# Altium integrated library PCB_Project.IntLib: 24 symbols
Pins are listed as number, name and electrical type; pins without a type are passive.

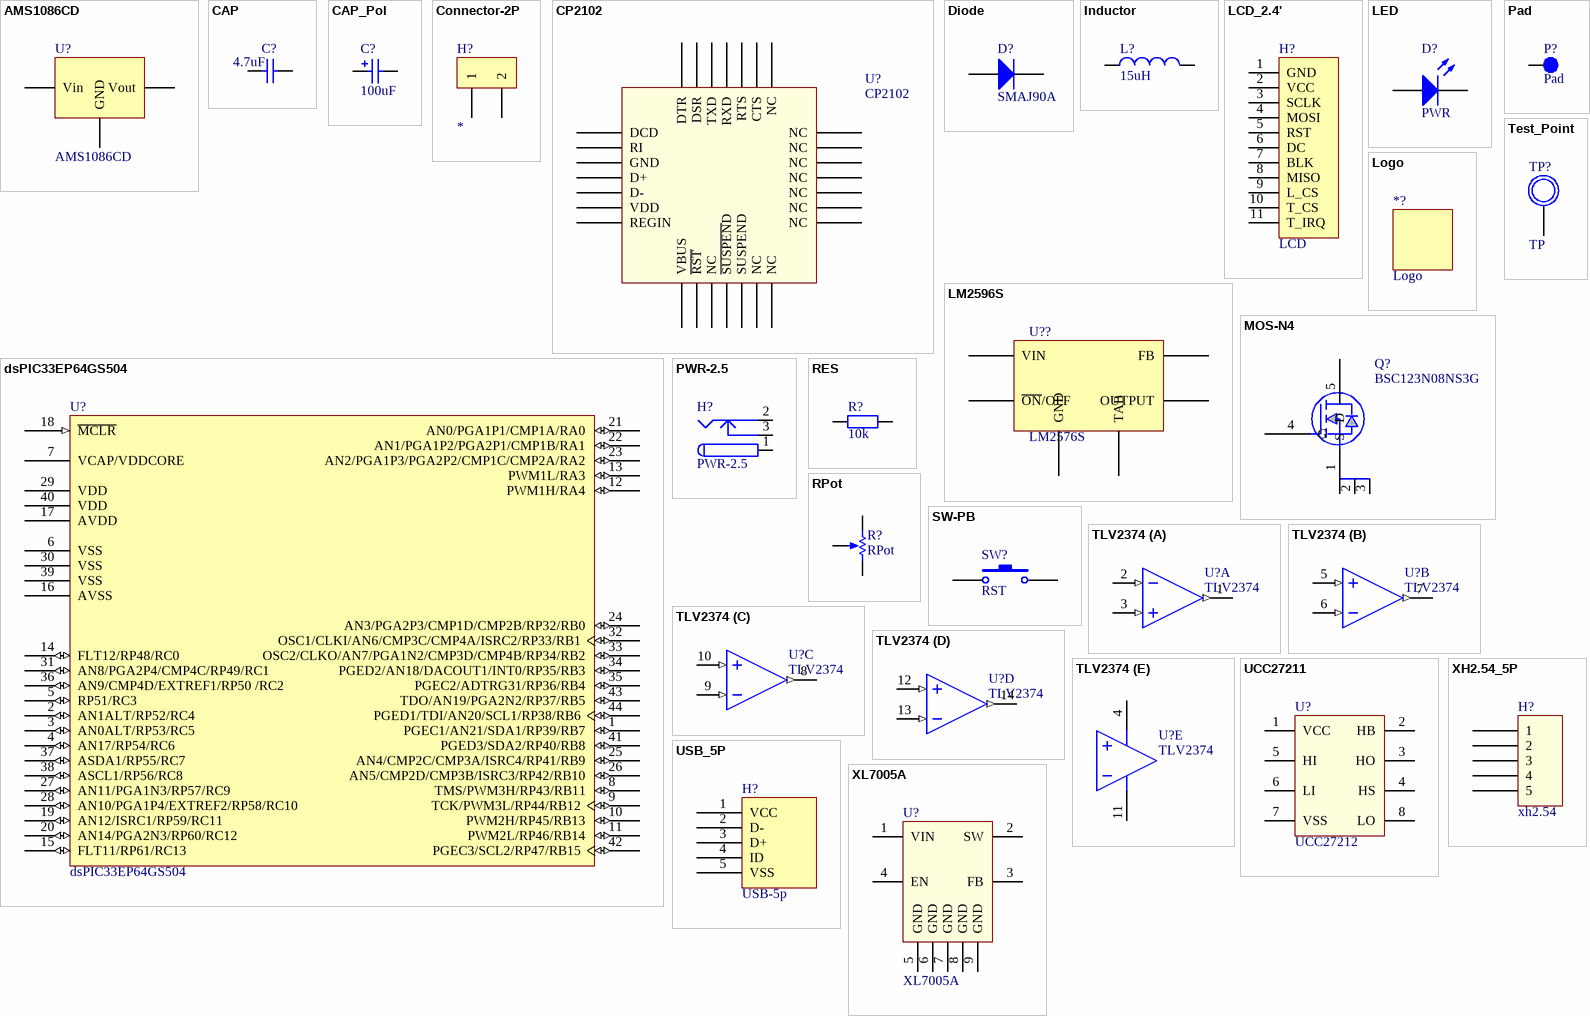
[diagram p0: symbols AMS1086CD to XL7005A]

## AMS1086CD
designator U?
LDO
footprint DPAK228P1003X238-3N (D-PAK, 3-Pads, Body 6.15x6.66mm (max), IPC Medium Density)
pins: 1 GND, 2 Vout, 3 Vin

## CAP
designator C?, comment 4.7uF
CAP NON-POL; Tolerance: +/-10%; Rated Voltage: 50V; Capacitance Value: 0.1uF
3D model CAP0603 (PCB3D Model)
footprint CAP0603 (Chip Capacitor, 2-Leads, Body 1.60x0.80mm, IPC Medium Density)
footprint CAP0402 (Chip Capacitor, 2-Leads, Body 1.00x0.50mm, IPC Medium Density)
footprint CAP1206 (Chip Capacitor, 2-Leads, Body 3.20x1.60mm, IPC Medium Density)
pins: 1, 2

## CAP_Pol
designator C?, comment 100uF
cap pol; Tolerance: +\- 10%; Capacitance Value: 47uF; Rated Voltage: 50V
footprint AVX-A (Molded Capacitor, 2-Leads, Body 3.20x1.60mm, IPC Medium Density)
3D model AVX-A (PCB3D Model)
footprint CAPAE8983X105N (Aluminum Electrolytic Capacitor, Body 8.30x8.30x10.50mm, IPC Medium Density)
footprint CAPAE109103X105N (Aluminum Electrolytic Capacitor, Body 10.30x10.30x10.50mm, IPC Medium Density)
pins: 1, 2

## Connector-2P
designator H?
footprint KF350 (Pitch 3.5mm)
footprint KF301
pins: 1, 2

## CP2102
designator U?
footprint QFN28 (PQFN, 28-Leads, Body 5.00x5.00mm, Pitch 0.50mm, Thermal Pad 3.10x3.10mm, IPC Medium Density)
pins: 1 DCD, 2 RI, 3 GND, 4 D+, 5 D-, 6 VDD, 7 REGIN, 8 VBUS, 9 ~{RST}, 10 NC, 11 ~{SUSPEN}D, 12 SUSPEND, 13 NC, 14 NC, 15 NC, 16 NC, 17 NC, 18 NC, 19 NC, 20 NC, 21 NC, 22 NC, 23 CTS, 24 RTS, 25 RXD, 26 TXD, 27 DSR, 28 DTR, 29 GND hidden to GND "note pin29 need to connect to gnd"

## Diode
designator D?, comment SMAJ90A
diode
footprint SMA (Molded Diode, 2-Leads, Body 5.20x2.60mm, IPC Medium Density)
footprint DIOM5436X26N (Molded Diode, 2-Leads, Body 5.40x3.60mm, IPC Medium Density)
pins: 1 A, 2 K

## dsPIC33EP64GS504
designator U?
footprint TQFP-PT44_M (Thin QFP, 44-Leads, Body 10x10mm, Pitch 0.8mm, IPC Low Density)
pins: 1 PGEC1/AN21/SDA1/RP39/RB7 (io), 2 AN1ALT/RP52/RC4 (io), 3 AN0ALT/RP53/RC5 (io), 4 AN17/RP54/RC6 (io), 5 RP51/RC3 (io), 6 VSS (power), 7 VCAP/VDDCORE (power), 8 TMS/PWM3H/RP43/RB11 (io), 9 TCK/PWM3L/RP44/RB12 (io), 10 PWM2H/RP45/RB13 (io), 11 PWM2L/RP46/RB14 (io), 12 PWM1H/RA4 (io), 13 PWM1L/RA3 (io), 14 FLT12/RP48/RC0 (io), 15 FLT11/RP61/RC13 (io), 16 AVSS (power), 17 AVDD (power), 18 ~{MCLR} (in), 19 AN12/ISRC1/RP59/RC11 (io), 20 AN14/PGA2N3/RP60/RC12 (io), 21 AN0/PGA1P1/CMP1A/RA0 (io), 22 AN1/PGA1P2/PGA2P1/CMP1B/RA1 (io), 23 AN2/PGA1P3/PGA2P2/CMP1C/CMP2A/RA2 (io), 24 AN3/PGA2P3/CMP1D/CMP2B/RP32/RB0 (io), 25 AN4/CMP2C/CMP3A/ISRC4/RP41/RB9 (io), 26 AN5/CMP2D/CMP3B/ISRC3/RP42/RB10 (io), 27 AN11/PGA1N3/RP57/RC9 (io), 28 AN10/PGA1P4/EXTREF2/RP58/RC10 (io), 29 VDD (power), 30 VSS (power), 31 AN8/PGA2P4/CMP4C/RP49/RC1 (io), 32 OSC1/CLKI/AN6/CMP3C/CMP4A/ISRC2/RP33/RB1 (io), 33 OSC2/CLKO/AN7/PGA1N2/CMP3D/CMP4B/RP34/RB2 (io), 34 PGED2/AN18/DACOUT1/INT0/RP35/RB3 (io), 35 PGEC2/ADTRG31/RP36/RB4 (io), 36 AN9/CMP4D/EXTREF1/RP50 /RC2 (io), 37 ASDA1/RP55/RC7 (io), 38 ASCL1/RP56/RC8 (io), 39 VSS (power), 40 VDD (power), 41 PGED3/SDA2/RP40/RB8 (io), 42 PGEC3/SCL2/RP47/RB15 (io), 43 TDO/AN19/PGA2N2/RP37/RB5 (io), 44 PGED1/TDI/AN20/SCL1/RP38/RB6 (io)

## Inductor
designator L?, comment 15uH
Inductor
footprint IND0805 (Chip Inductor, 2-Leads, Body 2.00x1.25mm, IPC Medium Density)
footprint IND0402 (Chip Inductor, 2-Leads, Body 1.00x0.50mm, IPC Medium Density)
footprint INDM104103X40N (Molded Inductor, 2-Leads, Body 10.40x10.30mm, IPC Medium Density)
footprint IND1206 (Chip Inductor, 2-Leads, Body 3.20x1.60mm, IPC Medium Density)
footprint CDRH125 (Molded Inductor, 2-Leads, Body 12.00x11.70mm, IPC Medium Density)
pins: 1, 2

## LCD_2.4'
designator H?, comment LCD
2.4' TFT Module
footprint LCD-2.4'
pins: 1 GND, 2 VCC, 3 SCLK, 4 MOSI, 5 RST, 6 DC, 7 BLK, 8 MISO, 9 L_CS, 10 T_CS, 11 T_IRQ

## LED
designator D?, comment PWR
led
footprint LED0603 (Chip Diode, 2-Leads, Body 1.60x0.80mm, IPC Medium Density)
footprint LED0402 (Chip Diode, 2-Leads, Body 1.00x0.50mm, IPC Medium Density)
pins: 1 A, 2 K

## LM2596S
designator U??, comment LM2576S
1A,52KHz,Step-Down
footprint DPAK170P1435X465-6N (D2-PAK, 6-Pads, Body 7.55x8.56mm (max), IPC Medium Density)
pins: 1 VIN, 2 OUTPUT, 3 GND, 4 FB, 5 ~{ON}/OFF, 6 TAB

## Logo
designator *?
footprint Logo
footprint USST

## MOS-N4
designator Q?, comment BSC123N08NS3G
N Channel MOSFET
footprint QFN5x6
pins: 1 S, 2, 3, 4 G, 5 D

## Pad
designator P?
footprint PAD85R
footprint PAD320R450
pins: 1

## PWR-2.5
designator H?
footprint PWR-2.5
pins: 1 (power), 2 (power), 3 (power)

## RES
designator R?, comment 10k
res
footprint RES0402 (Chip Resistor, 2-Leads, Body 1.00x0.50mm, IPC Medium Density)
footprint RES0603 (Chip Resistor, 2-Leads, Body 1.60x0.80mm, IPC Medium Density)
footprint RES0805 (Chip Resistor, 2-Leads, Body 2.00x1.25mm, IPC Medium Density)
footprint RES1206 (Chip Resistor, 2-Leads, Body 3.20x1.60mm, IPC Medium Density)
pins: 1, 2

## RPot
designator R?
Potentiometer
footprint RM065
pins: 1 TOP, 2 TAP, 3 BOT

## SW-PB
designator SW?, comment RST
push button
footprint SW-PB SMD
pins: 1, 2

## Test_Point
designator TP?, comment TP
test point
footprint Test_Point
footprint PAD85R
pins: 1

## TLV2374
designator U?
550uA/Ch 3-MHz RAIL-TO-RAIL INPUT/OUTPUT OPERATIONAL AMPLIFIERS
footprint SOIC127P600X175-14N (SOIC, 14-Leads, Body 8.65x3.90mm, Pitch 1.27mm, IPC Medium Density)
part A pins: 1 OUT (out), 2 IN- (in), 3 IN+ (in)
part B pins: 5 IN+ (in), 6 IN- (in), 7 OUT (out)
part C pins: 8 OUT (out), 9 IN- (in), 10 IN+ (in)
part D pins: 12 IN+ (in), 13 IN- (in), 14 OUT (out)
part E pins: 4 V- (power), 11 V+ (power)

## UCC27211
designator U?, comment UCC27212
UCC2721x 120-V Boot, 4-A Peak, High-Frequency High-Side and Low-Side Driver
footprint SOP127P600X175-8N (SOP, 8-Leads, Body 4.90x3.90mm, Pitch 1.27mm, IPC Medium Density)
pins: 1 VCC, 2 HB, 3 HO, 4 HS, 5 HI, 6 LI, 7 VSS, 8 LO

## USB_5P
designator H?, comment USB-5p
USB_5P
footprint USB_Mini
footprint USB_Micro
pins: 1 VCC, 2 D-, 3 D+, 4 ID, 5 VSS

## XH2.54_5P
designator H?, comment xh2.54
pitch2.54
footprint XH2.54_5A
pins: 1, 2, 3, 4, 5

## XL7005A
designator U?
0.4A 150KHz 80V Buck DC to DC Converter
footprint SOIC127P600X175_HS-9N (SOIC, 8-Leads, Body 4.90x3.91mm, Pitch 1.27mm, Thermal Pad 2.30x2.30mm, IPC Medium Density)
pins: 1 VIN, 2 SW, 3 FB, 4 EN, 5 GND, 6 GND, 7 GND, 8 GND, 9 GND